# Altium footprint library Wireless_Security_Detector.PcbLib: 36 footprints (part 3 of 3)
Each footprint in its own frame and in the unit in brackets; x right, y up, seen from the top. Pads: shape width x height; smd on the part's side, far side on the other; paste and mask are expansions set on the pad; w line width, h text height; cw(c..) or ccw(c..) is an arc to the next point about the centre after c.
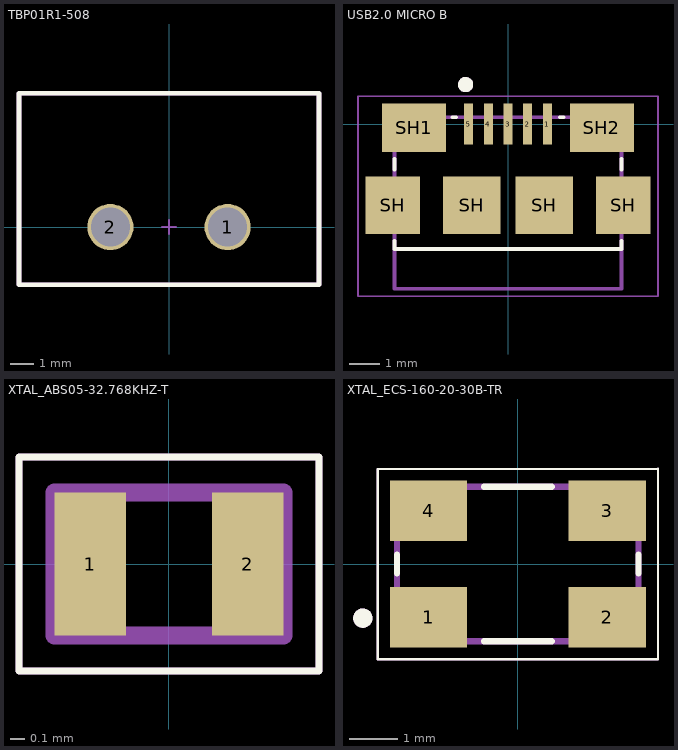
[diagram p2: the footprints below, top view; thin cyan lines are the x and y axes]

## TBP01R1-508 [mm]
pads (2):
  round 2 hole 1.7 mask+0.05: 1(2.54,0) 2(-2.54,0)
Top Overlay:
  lines w0.2: -6.5,-2.5 6.5,-2.5 6.5,5.8 -6.5,5.8 -6.5,-2.5
Top 3D Body:
  lines w0.2: -6.5,-2.5 6.5,-2.5 6.5,5.8 -6.5,5.8 -6.5,-2.5
Top Component Center:
  lines w0.1: -0.3,0 0.3,0 ; 0,-0.3 0,0.3
  lines w0.2: -6.5,-2.5 6.5,-2.5 6.5,5.8 -6.5,5.8 -6.5,-2.5
Top Designator:
  lines w0.2: -6.5,-2.5 -6.5,5.8 6.5,5.8 6.5,-2.5 -6.5,-2.5
  text ".Designator" at -1.2,2.367 h0.8
3D body "Same_Sky_TBP01R1-508-02BE.step": height 8.51, standoff -3.99, extent -5.88,-2 5.88,10

## USB2.0 MICRO B [mm]
pads (11):
  rect 0.3x1.35 smd: 1(1.3,0) 2(0.65,0) 3(0,0) 4(-0.65,0) 5(-1.3,0)
  rect 1.8x1.9 smd: SH(-3.8,-2.675) SH(3.8,-2.675)
  rect 1.9x1.9 smd: SH(-1.2,-2.675) SH(1.2,-2.675)
  rect 2.1x1.6 smd: SH1(-3.1,-0.125) SH2(3.1,-0.125)
Top Overlay:
  circle w0.3: c-1.4,1.3 r0.1
  lines w0.127: -3.75,-3.85 -3.75,-4.125 3.75,-4.125 3.75,-3.85 ; -3.75,-1.5 -3.75,-1.15 ; -1.83,0.225 -1.72,0.225 ; 1.72,0.225 1.83,0.225 ; 3.75,-1.5 3.75,-1.15
Top 3D Body:
  lines w0.127: -3.75,-4.125 3.75,-4.125 ; -3.75,-4.125 -3.75,-5.436 3.75,-5.436 3.75,-4.125 ; -3.75,-4.125 -3.75,0.225 3.75,0.225 3.75,-4.125
Top Designator:
  lines w0.05: -4.95,-5.686 -4.95,0.925 4.95,0.925 4.95,-5.686 -4.95,-5.686
  text ".Designator" at -2.3,-5.133 h0.8
Mechanical 13:
  circle w0.3: c-1.4,1.3 r0.1
3D body "step_temp.STEP": height 2.5, standoff -0.29, extent -3.955,-5.396 3.955,0.27

## XTAL_ABS05-32.768KHZ-T [mm]
pads (2):
  rect 0.5x1 smd: 1(-0.55,0) 2(0.55,0)
Top Overlay:
  lines w0.05: -1.05,-0.75 -1.05,0.75 1.05,0.75 1.05,-0.75 -1.05,-0.75
Top 3D Body:
  lines w0.05: -1.05,-0.75 -1.05,0.75 1.05,0.75 1.05,-0.75 -1.05,-0.75
Top Designator:
  lines w0.05: -1.05,-0.75 1.05,-0.75 1.05,0.75 -1.05,0.75 -1.05,-0.75
  text ".Designator" at 0.167,-0.3 h0.4
Mechanical 13:
  lines w0.127: -0.8,-0.5 -0.8,0.5 0.8,0.5 0.8,-0.5 -0.8,-0.5
3D body "ABS05-32.768KHZ-T--3DModel-STEP-400430.STEP": height 0.5, standoff 0, extent -0.8,-0.5 0.8,0.5

## XTAL_ECS-160-20-30B-TR [mm]
pads (4):
  rect 1.6x1.25 smd: 1(-1.85,-1.1) 2(1.85,-1.1) 3(1.85,1.1) 4(-1.85,1.1)
Top Overlay:
  circle w0.2: c-3.21,-1.12 r0.1
  lines w0.05: -2.9,-1.975 -2.9,1.96 2.9,1.975 2.9,-1.975 -2.9,-1.975
  lines w0.127: -2.5,-0.2 -2.5,0.2 ; -0.7,-1.6 0.7,-1.6 ; -0.7,1.6 0.7,1.6 ; 2.5,-0.2 2.5,0.2
Top 3D Body:
  lines w0.05: -2.9,-1.975 -2.9,1.96 2.9,1.975 2.9,-1.975 -2.9,-1.975
  lines w0.127: -2.5,-1.6 -2.5,1.6 2.5,1.6 2.5,-1.6 -2.5,-1.6
Top Designator:
  lines w0.05: -2.9,-1.975 2.9,-1.975 2.9,1.975 -2.9,1.96 -2.9,-1.975
  text ".Designator" at -0.9,-0.167 h0.4
Mechanical 13:
  circle w0.2: c-3.21,-1.12 r0.1
3D body "ECS-160-20-30B-TR.STEP": height 0.85, standoff 0, extent -2.5,-1.6 2.5,1.6